# Altium footprint library Library.PcbLib: 17 footprints (part 2 of 2)
Each footprint in its own frame and in the unit in brackets; x right, y up, seen from the top. Pads: shape width x height; smd on the part's side, far side on the other; paste and mask are expansions set on the pad; w line width, h text height; cw(c..) or ccw(c..) is an arc to the next point about the centre after c.
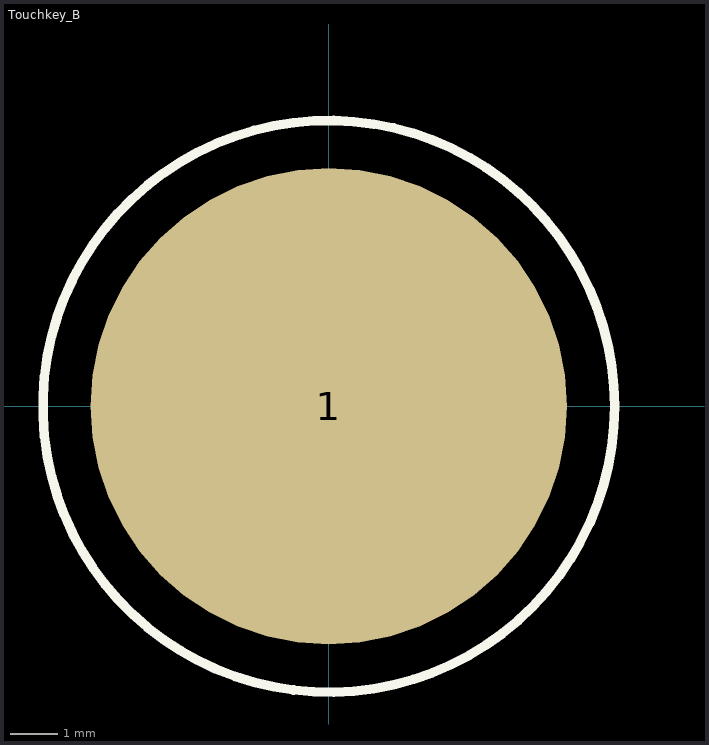
[diagram p1: the footprint, top view; thin cyan lines are the x and y axes]

## Touchkey_B [mm]
height 1.21
pads (1):
  round 10 smd mask-10: 1(0,0)
Top Overlay:
  circle w0.2: c0,0 r6
  text "B" at -2.939,-2.643 h10
Top Courtyard:
  circle w0.05: c0,0 r6
Top Component Center:
  lines w0.1: -0.5,0 0.5,0 ; 0,-0.5 0,0.5